# Altium schematic symbol library Passive.SchLib: 12 symbols
Pins are listed as number, name and electrical type; pins without a type are passive.

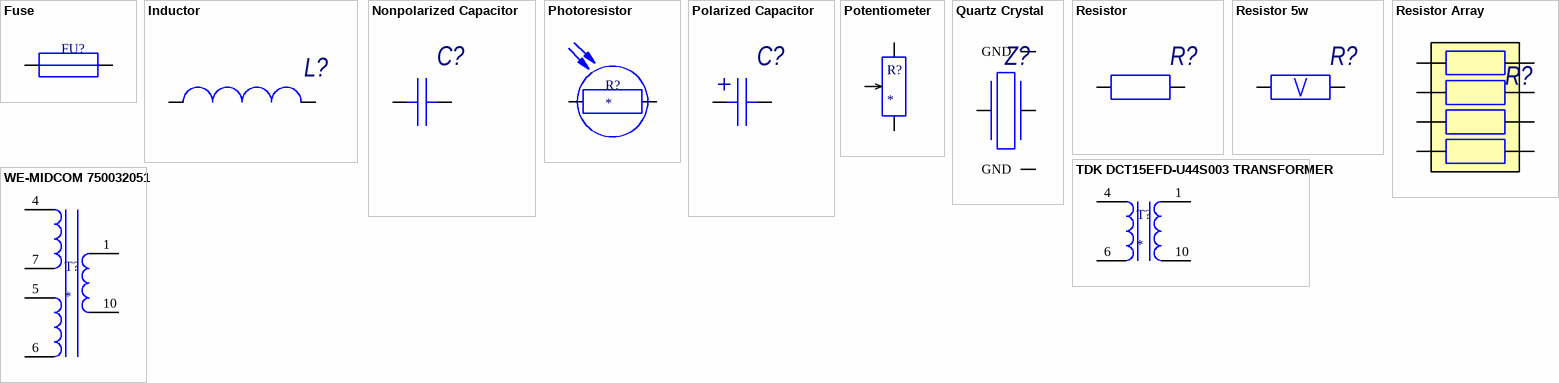
[diagram p0: symbols Fuse to WE-MIDCOM 750032051]

## Fuse
designator FU?
Fuse
footprint FH-101
footprint MF0805
footprint MF1210
footprint MF-R600
pins: 1, 2

## Inductor
designator L?
Inductor
footprint IND: B82477G
footprint IND: B82472G
footprint SPM4020-LR (Inductor)
pins: 1, 2

## Nonpolarized Capacitor
designator C?
Nonpolarized Capacitor (Ceramic)
footprint NPC0603 (Non polar chip capacitor, size 0603)
footprint NPC0805 (Non polar chip capacitor, size 0805)
pins: 1, 2

## Photoresistor
designator R?
Photoresistor
footprint GL55 (Photoresistor)
pins: 1, 2

## Polarized Capacitor
designator C?
Polarized Capacitor (Electrolytic, tantalum)
footprint CAP_PIN_RAD_D10_L12.5_A5 (D10_L12.5_A5)
footprint CAP_PIN_RAD_D16_A7.5 (D16_A7.5)
footprint CAP_PIN_RAD_D10_A5 RA (D10_A5_RA)
footprint CAP_PIN_RAD_D12.5_L20_A5 (D12.5_L20_A5)
footprint CAP_PIN_RAD_D6.3_L11.2_A5
footprint ECAP SMD 10x10.5
footprint CAP_PIN_RAD_D10_L21_A5 (D10_L21_A5)
footprint TANTAL CAPACITOR C (Tatntalum capacitor, C package)
pins: 1, 2

## Potentiometer
designator R?
Potentiometer
pins: 1, 1, 2

## Quartz Crystal
designator Z?
Quartz oscillator; Manufacturer: Geyer Electronics; Name: KX-7T; Tolerance: 30ppm; Temperature tolerance: 100ppm; Max. aging frequency at first year: +-2ppm; Temperature range: -40...85C; Package: SMD3,2x2,5x0,8
footprint KX-7T
pins: 1, 2, 3 GND, 4 GND

## Resistor
designator R?
Resistor; Power rating: 2Вт
footprint R1206
footprint R0402
footprint R0603
footprint R0805
footprint R2512
pins: 1, 2

## Resistor 5w
designator R?
Resistor 5w; Power rating: 2Вт
footprint цементный резистор 5 ватт
pins: 1, 2

## Resistor Array
designator R?
Resistor Array; Power rating: 0,05Вт
footprint CAT16 (Chip Array, Concave, 8-Leads, Pitch 0,80mm,  Body 3,20x1,55mm,  IPC Medium Density)
pins: 1, 2, 3, 4, 5, 6, 7, 8

## TDK DCT15EFD-U44S003 TRANSFORMER
designator T?
DCT15EFD-U44S003
footprint TDK DCT15EFD-U44S003 TRANSFORMER
pins: 1 0, 4, 6 0, 10

## WE-MIDCOM 750032051
designator T?
Transformer 10:1 = (1-10):(6-5)
footprint WE-MIDCOM 750032051
pins: 1 0, 4, 5, 6 0, 7 0, 10